# EAGLE library part KXN_HEADER_1X8 (library kxnStandard_connector)
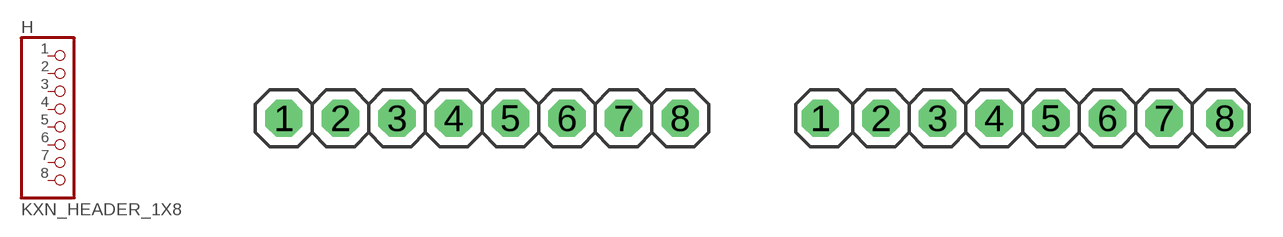
[diagram p5: symbol with the pads of HEADER_1X8_254; footprints HEADER_1X8_254, HEADER_1X8_254_LOCK]

Designator prefix H

## KXN_HEADER_1X8 (CC_SHOP: CongCo; VALUE: HEADER_BLACK_254_1X8)  [HEADER_1X8_254]
1  1  pas
2  2  pas
3  3  pas
4  4  pas
5  5  pas
6  6  pas
7  7  pas
8  8  pas

## KXN_HEADER_1X8_M_LOCK (CC_SHOP: CongCo; VALUE: HEADER_BLACK_254_1X8)  [HEADER_1X8_254_LOCK]
Pads as for HEADER_1X8_254

## KXN_HEADER_1X8Z1 (CC_SHOP: CongCo)  [HEADER_1X8_254_LOCK_Z]
Pads as for HEADER_1X8_254

## KXN_HEADER_1X8_DRI_1 (CC_SHOP: CongCo)  [HEADER_1X8_254_DRI_1]
Pads as for HEADER_1X8_254

## KXN_HEADER_1X8_Z_2 (CC_SHOP: CongCo)  [HEADER_1X8_254_LOCK_Z_2]
Pads as for HEADER_1X8_254

## KXN_HEADER_1X8_LF (CC_COST: 0.12; CC_ID: 522579376259; CC_OPTION: 1*8P单排母座; CC_SHOP: CongCo; INFO: Header Female Straight 2.54mm 1x8 8P 8.2mm Black; KXN_ID: SA14086710; VALUE: HFS_1x8P_Black)  [HEADER_1X8_LOCK_FEMALE]
Pads as for HEADER_1X8_254

## KXN_HEADER_1X8_TERMINAL_381_V1 (CC_SHOP: CongCo)  [H381_08P_SCREW_FIX_FULL]
Pads as for HEADER_1X8_254

## Footprint HEADER_1X8_254 (pad centres in mm)
drill 0.95 pad 1.676 octagon: 1 -8.89,0; 2 -6.35,0; 3 -3.81,0; 4 -1.27,0; 5 1.27,0; 6 3.81,0; 7 6.35,0; 8 8.89,0

## Footprint HEADER_1X8_254_LOCK (pad centres in mm)
drill 0.95 pad 1.676 octagon: 1 -9.07,0; 2 -6.35,0; 3 -3.81,0; 4 -1.27,0; 5 1.27,0; 6 3.81,0; 7 6.35,0; 8 9.07,0

## Footprint HEADER_1X8_254_LOCK_Z (pad centres in mm)
drill 0.95 pad 1.676 octagon: 1 -9.07,0; 2 -6.35,0.2; 3 -3.81,0; 4 -1.27,0; 5 1.27,0; 6 3.81,0; 7 6.35,-0.2; 8 9.07,0

## Footprint HEADER_1X8_254_DRI_1 (pad centres in mm)
drill 0.85 pad 1.676 octagon: 1 -8.89,0; 2 -6.35,0
drill 0.75 pad 1.676 octagon: 3 -3.81,0; 4 -1.27,0
drill 0.65 pad 1.676 octagon: 5 1.27,0; 6 3.81,0
drill 0.55 pad 1.676 octagon: 7 6.35,0; 8 8.89,0

## Footprint HEADER_1X8_254_LOCK_Z_2 (pad centres in mm)
drill 0.95 pad 1.676 octagon: 1 -9.07,0; 2 -6.35,0.2; 3 -3.81,-0.2; 4 -1.27,0; 5 1.27,0; 6 3.81,0.2; 7 6.35,-0.2; 8 9.07,0

## Footprint HEADER_1X8_LOCK_FEMALE (pad centres in mm)
drill 0.65 pad 1.676 octagon: 1 -8.94,0; 2 -6.35,0; 7 6.35,0; 8 8.94,0
drill 0.75 pad 1.676 octagon: 3 -3.81,0; 4 -1.27,0; 5 1.27,0; 6 3.81,0

## Footprint H381_08P_SCREW_FIX_FULL (pad centres in mm)
drill 1.2 pad 1.9 octagon: 1 -13.53,0; 2 -9.525,0; 3 -5.715,0; 4 -1.905,0; 5 1.905,0; 6 5.715,0; 7 9.525,0; 8 13.53,0